# EAGLE library part USBMICRO (library MICROCONTROLLER)
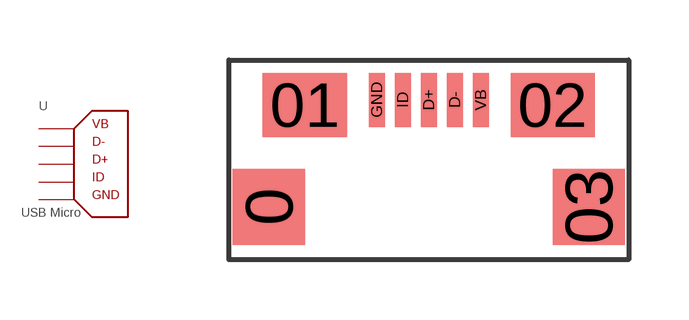
[diagram p2: symbol with the pads of USBMICROB; footprint USBMICROB]

Designator prefix -

## USBMICRO  [USBMICROB]
0  GND  pas
01  GND  pas
02  GND  pas
03  GND  pas
D+  3  pas
D-  2  pas
GND  GND  pas
ID  4  pas
VB  1  pas

## Footprint USBMICROB (pad centres in mm)
smd 1.8 x 1.9: 0 -4,-2.675; 03 4,-2.675
smd 2.1 x 1.6: 01 -3.1,-0.125; 02 3.1,-0.125
smd 0.4 x 1.35: D+ 0,0; D- 0.65,0; GND -1.3,0; ID -0.65,0; VB 1.3,0